# Altium schematic symbol library MCU.SchLib: 7 symbols
Pins are listed as number, name and electrical type; pins without a type are passive.

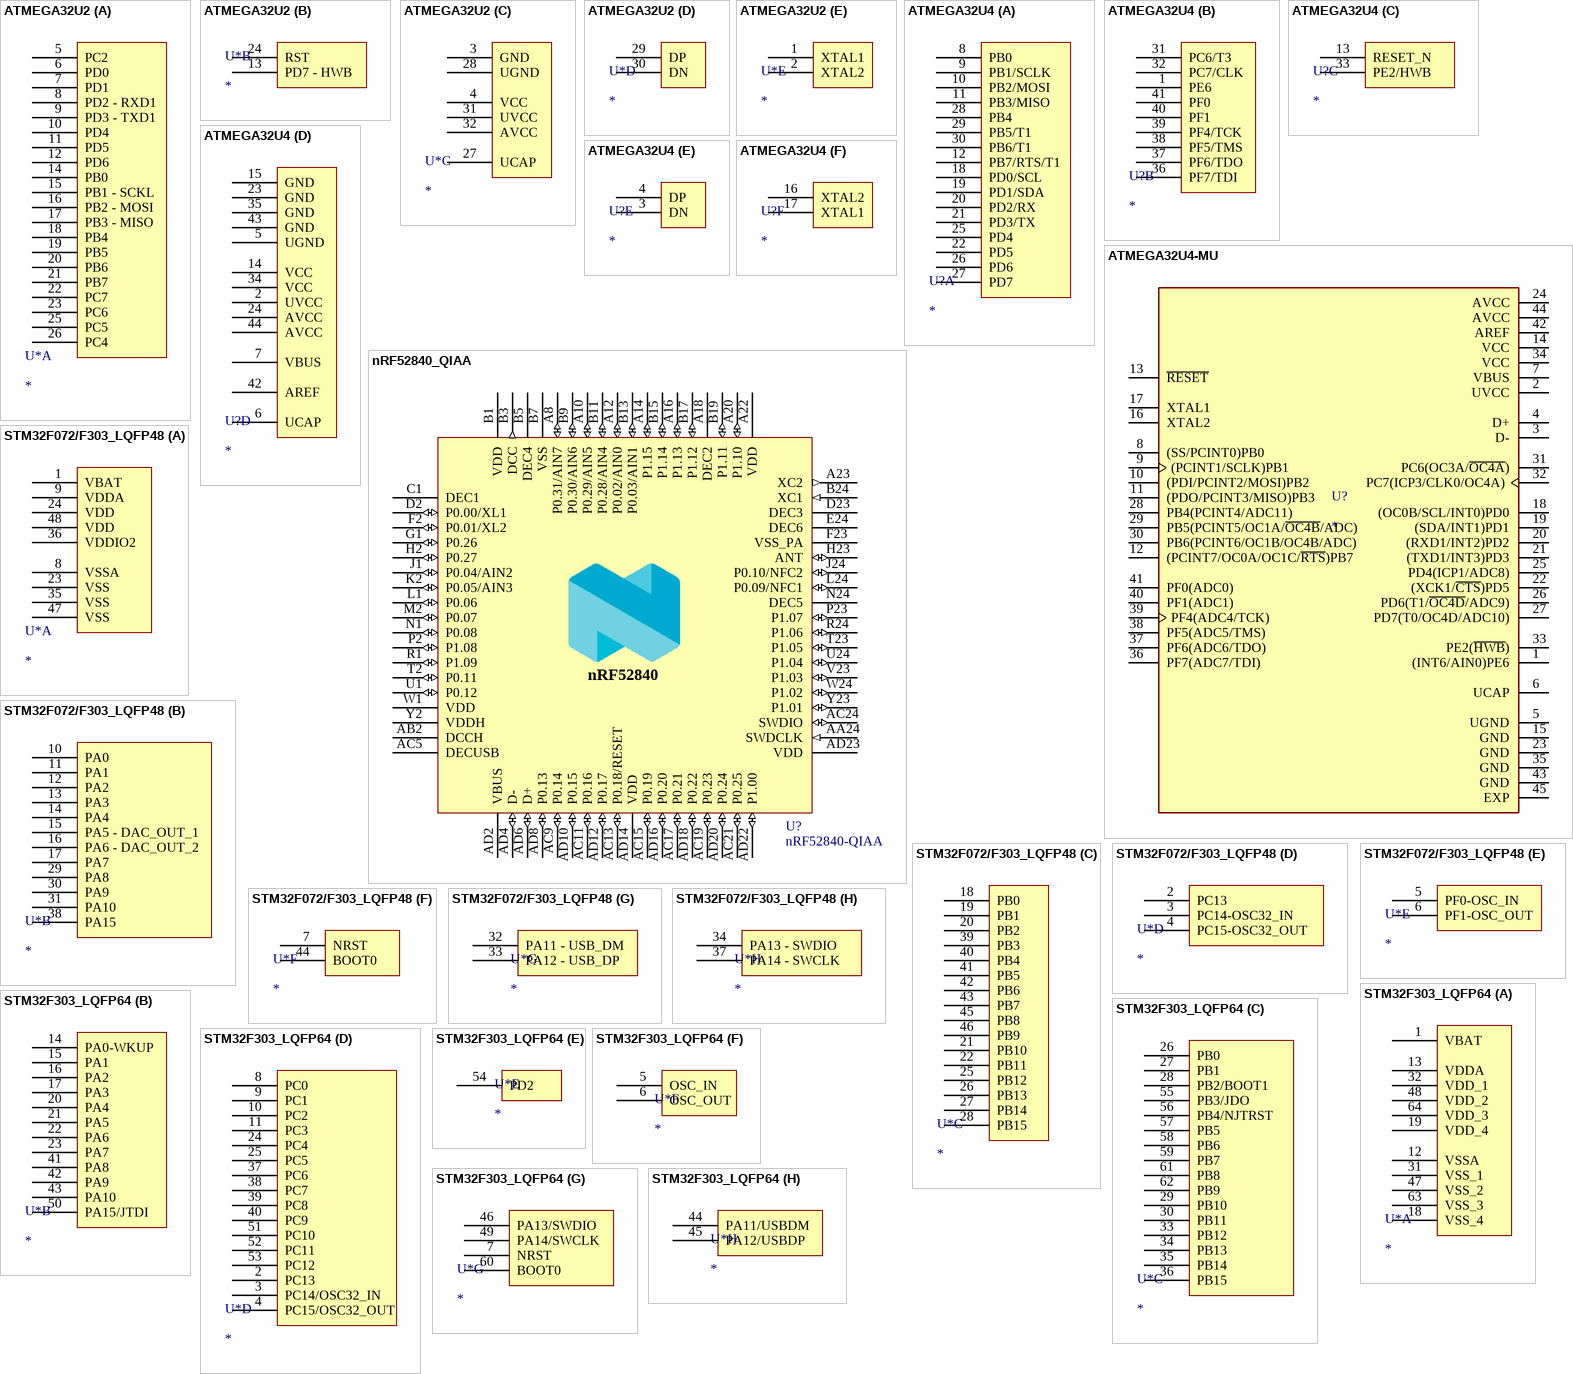
[diagram p0: symbols ATMEGA32U2 to STM32F303_LQFP64]

## ATMEGA32U2
designator U*
MFG: Microchip Technology; MFGPN: ATMEGA32U2-AUR
footprint ATMEGA32U2-LQFP
footprint ATMEGA32U2-COMBO
footprint ATMEGA32U2-QFN (QFN, 32-Leads, Body 5,00x5,00mm, Pitch 0,50mm, Thermal Pad 3,60x3,60mm, IPC Medium Density)
part A pins: 5 PC2, 6 PD0, 7 PD1, 8 PD2 - RXD1, 9 PD3 - TXD1, 10 PD4, 11 PD5, 12 PD6, 14 PB0, 15 PB1 - SCKL, 16 PB2 - MOSI, 17 PB3 - MISO, 18 PB4, 19 PB5, 20 PB6, 21 PB7, 22 PC7, 23 PC6, 25 PC5, 26 PC4
part B pins: 13 PD7 - HWB, 24 RST
part C pins: 3 GND, 4 VCC, 27 UCAP, 28 UGND, 31 UVCC, 32 AVCC
part D pins: 29 DP, 30 DN
part E pins: 1 XTAL1, 2 XTAL2

## ATMEGA32U4
designator U?
footprint ATMEGA32U4-COMBO (QFP, 44-Leads, Body 9,95x9,95mm, Pitch 0,80mm, IPC Medium Density)
footprint ATMEGA32U4-LQFP (QFP, 44-Leads, Body 9,95x9,95mm, Pitch 0,80mm, IPC Medium Density)
footprint ATMEGA32U4-QFN
part A pins: 8 PB0, 9 PB1/SCLK, 10 PB2/MOSI, 11 PB3/MISO, 12 PB7/RTS/T1, 18 PD0/SCL, 19 PD1/SDA, 20 PD2/RX, 21 PD3/TX, 22 PD5, 25 PD4, 26 PD6, 27 PD7, 28 PB4, 29 PB5/T1, 30 PB6/T1
part B pins: 1 PE6, 31 PC6/T3, 32 PC7/CLK, 36 PF7/TDI, 37 PF6/TDO, 38 PF5/TMS, 39 PF4/TCK, 40 PF1, 41 PF0
part C pins: 13 RESET_N, 33 PE2/HWB
part D pins: 2 UVCC, 5 UGND, 6 UCAP, 7 VBUS, 14 VCC, 15 GND, 23 GND, 24 AVCC, 34 VCC, 35 GND, 42 AREF, 43 GND, 44 AVCC
part E pins: 3 DN, 4 DP
part F pins: 16 XTAL2, 17 XTAL1

## ATMEGA32U4-MU
designator U?
8-bit Microcontrollers - MCU AVR USB 32K FLASH INDUSTRIA; MP: ATMEGA32U4-MU; Price: None; Value: *; Package: None; Availability: Unavailable
footprint QFN50P700X700X100-45N
pins: 1 (INT6/AIN0)PE6, 2 UVCC (power), 3 D-, 4 D+, 5 UGND (power), 6 UCAP, 7 VBUS (power), 8 (SS/PCINT0)PB0, 9 (PCINT1/SCLK)PB1, 10 (PDI/PCINT2/MOSI)PB2, 11 (PDO/PCINT3/MISO)PB3, 12 (PCINT7/OC0A/OC1C/~{RTS})PB7, 13 ~{RESET}, 14 VCC (power), 15 GND (power), 16 XTAL2, 17 XTAL1, 18 (OC0B/SCL/INT0)PD0, 19 (SDA/INT1)PD1, 20 (RXD1/INT2)PD2, 21 (TXD1/INT3)PD3, 22 (XCK1/~{CTS})PD5, 23 GND (power), 24 AVCC (power), 25 PD4(ICP1/ADC8), 26 PD6(T1/~{OC4D}/ADC9), 27 PD7(T0/OC4D/ADC10), 28 PB4(PCINT4/ADC11), 29 PB5(PCINT5/OC1A/~{OC4B}/ADC), 30 PB6(PCINT6/OC1B/OC4B/ADC), 31 PC6(OC3A/~{OC4A}), 32 PC7(ICP3/CLK0/OC4A), 33 PE2(~{HWB}), 34 VCC (power), 35 GND (power), 36 PF7(ADC7/TDI), 37 PF6(ADC6/TDO), 38 PF5(ADC5/TMS), 39 PF4(ADC4/TCK), 40 PF1(ADC1), 41 PF0(ADC0), 42 AREF (power), 43 GND (power), 44 AVCC (power), 45 EXP

## nRF52840_QIAA
designator U?, comment nRF52840-QIAA
Multi-protocol Bluetooth Low Energy, IEEE 802.15.4, ANT and 2.4GHz proprietary system-on-chip; Part Number: nRF52840-QIAAC0; Manufacturer: Nordic Semiconductor; Artikkelnr Noca: N.A.; Manufacturer Part Number: nRF52840-QIAAC0; LatestRevisionDate: 2017-12-06; Pin Count: 73; Publisher: Nordic Semiconductor; Published: 2017-08-21; Value: nRF52840-QIAA; Note: *; Supplier: Nordic Semiconductor; Supplier part number: nRF52840-QIAAC0; 2nd source Supplier: *; 2nd source part number: *; Footprint Doc: AQFN-73; Artikkelnr Simpro: N.A.; Part number IPS: N.A.; ComponentLink1URL: *; ComponentLink1Description: Datasheet; ComponentLink2URL: *; ComponentLink2Description: Supplier link; HelpURL: *
footprint NRF52840
pins: 74 GND (power) hidden to GND, A8 P0.31/AIN7 (io), A10 P0.29/AIN5 (io), A12 P0.02/AIN0 (io), A14 P1.15 (io), A16 P1.13 (io), A18 DEC2 (power), A20 P1.10 (io), A22 VDD (power), A23 XC2 (out), AA24 SWDCLK (in), AB2 DCCH (power), AC5 DECUSB (power), AC9 P0.14 (io), AC11 P0.16 (io), AC13 P0.18/RESET (io), AC15 P0.19 (io), AC17 P0.21 (io), AC19 P0.23 (io), AC21 P0.25 (io), AC24 SWDIO (io), AD2 VBUS (power), AD4 D- (io), AD6 D+ (io), AD8 P0.13 (io), AD10 P0.15 (io), AD12 P0.17 (io), AD14 VDD (power), AD16 P0.20 (io), AD18 P0.22 (io), AD20 P0.24 (io), AD22 P1.00 (io), AD23 VDD (power), B1 VDD (power), B3 DCC (out), B5 DEC4 (power), B7 VSS (power), B9 P0.30/AIN6 (io), B11 P0.28/AIN4 (io), B13 P0.03/AIN1 (io), B15 P1.14 (io), B17 P1.12 (io), B19 P1.11 (io), B24 XC1 (in), C1 DEC1 (power), D2 P0.00/XL1 (io), D23 DEC3 (power), E24 DEC6 (power), F2 P0.01/XL2 (io), F23 VSS_PA (power), G1 P0.26 (io), H2 P0.27 (io), H23 ANT (io), J1 P0.04/AIN2 (io), J24 P0.10/NFC2 (io), K2 P0.05/AIN3 (io), L1 P0.06 (io), L24 P0.09/NFC1 (io), M2 P0.07 (io), N1 P0.08 (io), N24 DEC5 (power), P2 P1.08 (io), P23 P1.07 (io), R1 P1.09 (io), R24 P1.06 (io), T2 P0.11 (io), T23 P1.05 (io), U1 P0.12 (io), U24 P1.04 (io), V23 P1.03 (io), W1 VDD (power), W24 P1.02 (io), Y2 VDDH (power), Y23 P1.01 (io)
text: nRF52840

## STM32F072/F303_LQFP48
designator U*
MFG: STMicroelectronics; MFGPN: STM32F072CBT6TR
footprint STM32 - LQFP48, 7x7mm (LQFP48, 7x7mm)
footprint STM32 - QFN48, 7x7mm (QFN, 48-Leads, Body 6,95x6,95mm, Pitch 0,50mm, Thermal Pad 5,60x5,60mm, IPC Medium Density)
footprint STM32 - COMBO 7x7mm (LQFP48, 7x7mm)
part A pins: 1 VBAT, 8 VSSA, 9 VDDA, 23 VSS, 24 VDD, 35 VSS, 36 VDDIO2, 47 VSS, 48 VDD
part B pins: 10 PA0, 11 PA1, 12 PA2, 13 PA3, 14 PA4, 15 PA5 - DAC_OUT_1, 16 PA6 - DAC_OUT_2, 17 PA7, 29 PA8, 30 PA9, 31 PA10, 38 PA15
part C pins: 18 PB0, 19 PB1, 20 PB2, 21 PB10, 22 PB11, 25 PB12, 26 PB13, 27 PB14, 28 PB15, 39 PB3, 40 PB4, 41 PB5, 42 PB6, 43 PB7, 45 PB8, 46 PB9
part D pins: 2 PC13, 3 PC14-OSC32_IN, 4 PC15-OSC32_OUT
part E pins: 5 PF0-OSC_IN, 6 PF1-OSC_OUT
part F pins: 7 NRST, 44 BOOT0
part G pins: 32 PA11 - USB_DM, 33 PA12 - USB_DP
part H pins: 34 PA13 - SWDIO, 37 PA14 - SWCLK

## STM32F303_LQFP64
designator U*
footprint STM32 - LQFP64, 10x10mm (TSQFP, 64-Leads, Body 10.00x10.00mm, Pitch 0.50mm, IPC Medium Density)
part A pins: 1 VBAT, 12 VSSA, 13 VDDA, 18 VSS_4, 19 VDD_4, 31 VSS_1, 32 VDD_1, 47 VSS_2, 48 VDD_2, 63 VSS_3, 64 VDD_3
part B pins: 14 PA0-WKUP, 15 PA1, 16 PA2, 17 PA3, 20 PA4, 21 PA5, 22 PA6, 23 PA7, 41 PA8, 42 PA9, 43 PA10, 50 PA15/JTDI
part C pins: 26 PB0, 27 PB1, 28 PB2/BOOT1, 29 PB10, 30 PB11, 33 PB12, 34 PB13, 35 PB14, 36 PB15, 55 PB3/JDO, 56 PB4/NJTRST, 57 PB5, 58 PB6, 59 PB7, 61 PB8, 62 PB9
part D pins: 2 PC13, 3 PC14/OSC32_IN, 4 PC15/OSC32_OUT, 8 PC0, 9 PC1, 10 PC2, 11 PC3, 24 PC4, 25 PC5, 37 PC6, 38 PC7, 39 PC8, 40 PC9, 51 PC10, 52 PC11, 53 PC12
part E pins: 54 PD2
part F pins: 5 OSC_IN, 6 OSC_OUT
part G pins: 7 NRST, 46 PA13/SWDIO, 49 PA14/SWCLK, 60 BOOT0
part H pins: 44 PA11/USBDM, 45 PA12/USBDP

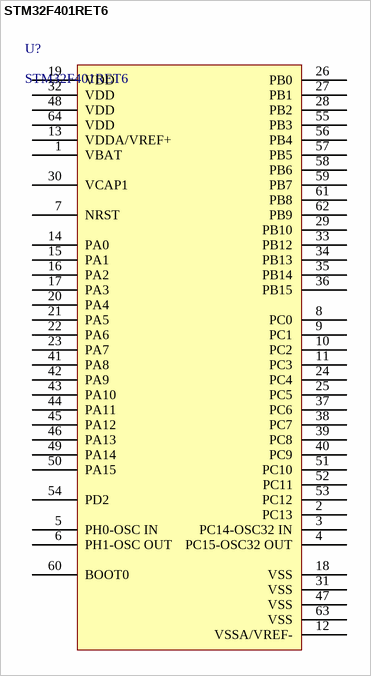
[diagram p1: symbol STM32F401RET6]

## STM32F401RET6
designator U?
Manufacturer: STMicroelectronics; Full Part Number: STM32F401RET6; Component Type: Embedded Microcontroller; Operating Temperature Range: -40°C ~ 85°C
footprint FP-LQFP64-5W-MFG
pins: 1 VBAT, 2 PC13, 3 PC14-OSC32 IN, 4 PC15-OSC32 OUT, 5 PH0-OSC IN, 6 PH1-OSC OUT, 7 NRST, 8 PC0, 9 PC1, 10 PC2, 11 PC3, 12 VSSA/VREF-, 13 VDDA/VREF+, 14 PA0, 15 PA1, 16 PA2, 17 PA3, 18 VSS, 19 VDD, 20 PA4, 21 PA5, 22 PA6, 23 PA7, 24 PC4, 25 PC5, 26 PB0, 27 PB1, 28 PB2, 29 PB10, 30 VCAP1, 31 VSS, 32 VDD, 33 PB12, 34 PB13, 35 PB14, 36 PB15, 37 PC6, 38 PC7, 39 PC8, 40 PC9, 41 PA8, 42 PA9, 43 PA10, 44 PA11, 45 PA12, 46 PA13, 47 VSS, 48 VDD, 49 PA14, 50 PA15, 51 PC10, 52 PC11, 53 PC12, 54 PD2, 55 PB3, 56 PB4, 57 PB5, 58 PB6, 59 PB7, 60 BOOT0, 61 PB8, 62 PB9, 63 VSS, 64 VDD